# Altium footprint library CAPC152X76X91L25N.PcbLib: 1 footprints
Each footprint in its own frame and in the unit in brackets; x right, y up, seen from the top. Pads: shape width x height; smd on the part's side, far side on the other; paste and mask are expansions set on the pad; w line width, h text height; cw(c..) or ccw(c..) is an arc to the next point about the centre after c.
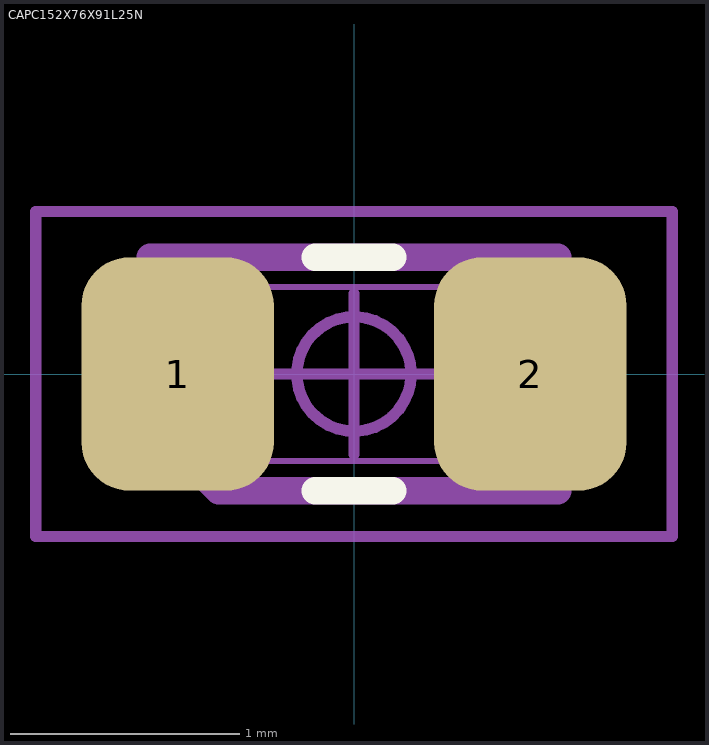
[diagram p0: the footprint, top view; thin cyan lines are the x and y axes]

## CAPC152X76X91L25N [mm] "Capacitor, Chip; 1.52 mm L X 0.76 mm W X 0.91 mm H body"
height 0.91
pads (2):
  rrect50% 0.84x1.02 smd: 1(-0.77,0) 2(0.77,0)
Top Overlay:
  lines w0.12: -0.17,-0.51 0.17,-0.51 ; -0.17,0.51 0.17,0.51
Mechanical 3:
  lines w0.12: -0.89,-0.21 -0.59,-0.51 0.89,-0.51 0.89,0.51 -0.89,0.51 -0.89,-0.21
Mechanical 5:
  lines w0.025: -0.76,-0.38 0.76,-0.38 ; -0.76,-0.38 -0.76,0.38 ; -0.76,-0.38 -0.76,0.38 ; -0.76,-0.38 -0.51,-0.38 -0.51,0.38 -0.76,0.38 ; -0.76,0.38 0.76,0.38 ; 0.76,-0.38 0.76,0.38 ; 0.76,-0.38 0.51,-0.38 0.51,0.38 0.76,0.38 ; 0.76,-0.38 0.76,0.38
Mechanical 7:
  circle w0.05: c0,0 r0.25
  lines w0.05: -0.35,0 0.35,0 ; 0,-0.35 0,0.35 ; -1.39,-0.71 1.39,-0.71 1.39,0.71 -1.39,0.71 -1.39,-0.71
Mechanical 9:
  text "'.Designator'" at -5.58,-0.304 h1
3D body "CAPC152X76X91L25.STEP": height 0.91, standoff 0, extent -0.76,-0.38 0.76,0.38
3D body: height 0.1, standoff 0, extent -1.39,-0.71 1.39,0.71